# EAGLE library part SPIFLASH (library goodfetparts)
Standard, SPI Flash Chip such as the 25C128.
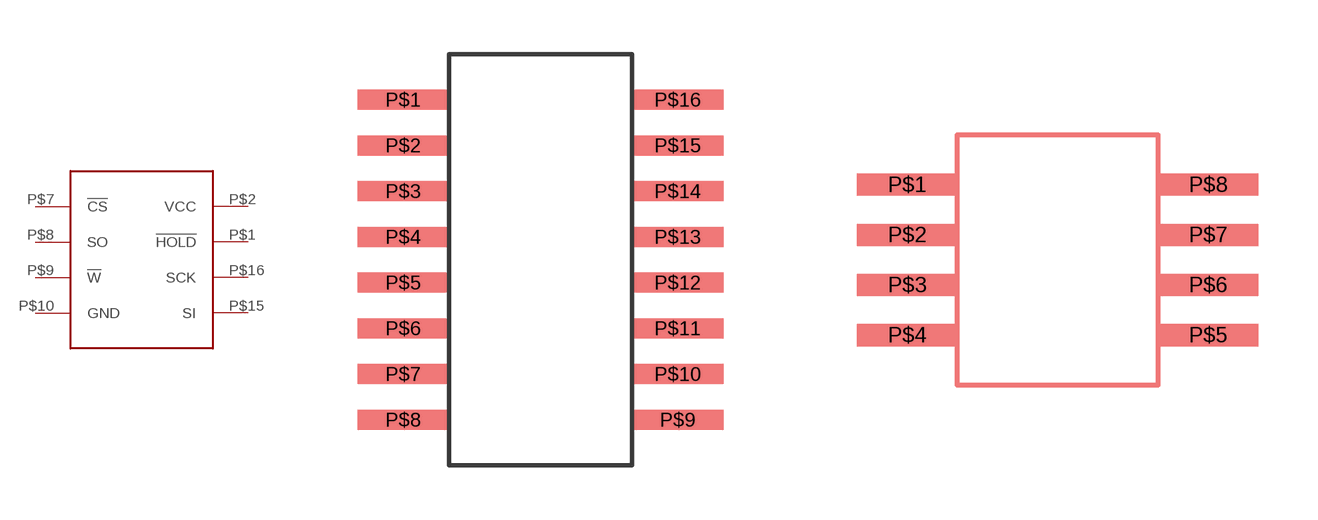
[diagram p0: symbol with the pads of SO16; footprints SO16, SO8]

Designator prefix -

## SPIFLASHSO16  [SO16]
P$1  !HOLD
P$2  VCC
P$7  !CS
P$8  SO
P$9  !W
P$10  GND
P$15  SI
P$16  SCK

## SPIFLASHSO8  [SO8]
P$1  !CS
P$2  SO
P$3  !W
P$4  GND
P$5  SI
P$6  SCK
P$7  !HOLD
P$8  VCC

## Footprint SO16 (pad centres in mm)
Standard SO16 size, with a bit of extra space for easy soldering.
smd 2.54 x 0.559: P$1 -3.81,5.08; P$2 -3.81,3.81; P$3 -3.81,2.54; P$4 -3.81,1.27; P$5 -3.81,0; P$6 -3.81,-1.27; P$7 -3.81,-2.54; P$8 -3.81,-3.81; P$9 3.81,-3.81; P$10 3.81,-2.54; P$11 3.81,-1.27; P$12 3.81,0; P$13 3.81,1.27; P$14 3.81,2.54; P$15 3.81,3.81; P$16 3.81,5.08

## Footprint SO8 (pad centres in mm)
smd 2.54 x 0.559: P$1 -3.81,1.27; P$2 -3.81,0; P$3 -3.81,-1.27; P$4 -3.81,-2.54; P$5 3.81,-2.54; P$6 3.81,-1.27; P$7 3.81,0; P$8 3.81,1.27